# Altium footprint library LQW15CNR20J00B.PcbLib: 1 footprints
Each footprint in its own frame and in the unit in brackets; x right, y up, seen from the top. Pads: shape width x height; smd on the part's side, far side on the other; paste and mask are expansions set on the pad; w line width, h text height; cw(c..) or ccw(c..) is an arc to the next point about the centre after c.
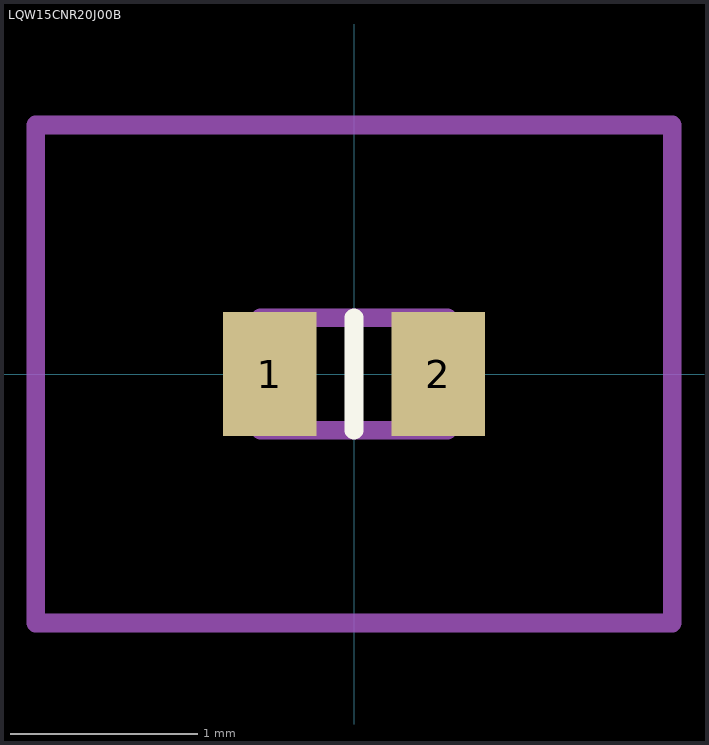
[diagram p0: the footprint, top view; thin cyan lines are the x and y axes]

## LQW15CNR20J00B [mm]
pads (2):
  rect 0.5x0.66 smd: 1(-0.45,0) 2(0.45,0)
Top Overlay:
  lines w0.1: 0,-0.3 0,0.3
Mechanical 13:
  lines w0.1: -0.5,-0.3 -0.5,0.3 0.5,0.3 0.5,-0.3 -0.5,-0.3
Mechanical 15:
  lines w0.1: -1.7,-1.33 -1.7,1.33 1.7,1.33 1.7,-1.33 -1.7,-1.33
3D body "LQW15AN22NG00D.stp": height 0.6, standoff 0, extent -0.5,-0.25 0.5,0.25